# Altium footprint library PCB_General.PcbLib: 58 footprints (part 2 of 4)
Each footprint in its own frame and in the unit in brackets; x right, y up, seen from the top. Pads: shape width x height; smd on the part's side, far side on the other; paste and mask are expansions set on the pad; w line width, h text height; cw(c..) or ccw(c..) is an arc to the next point about the centre after c.
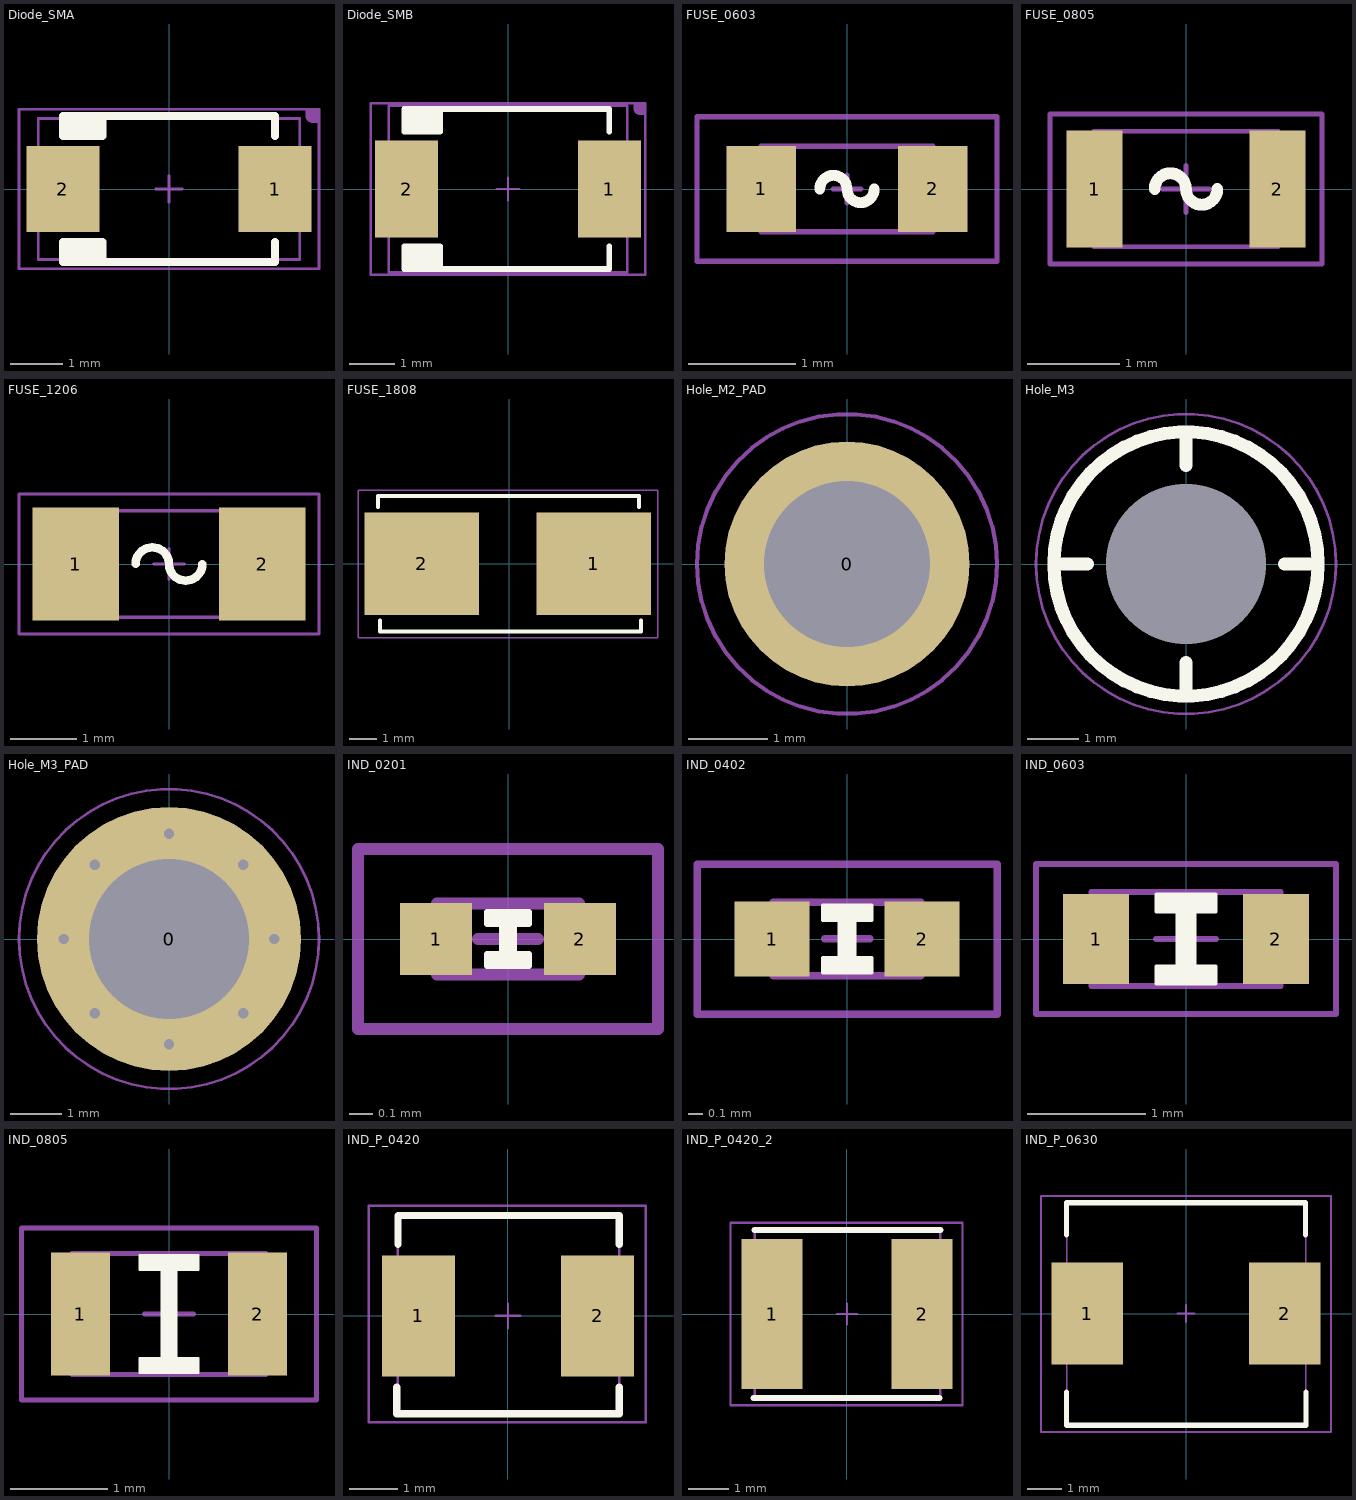
[diagram p1: the footprints below, top view; thin cyan lines are the x and y axes]

## Diode_SMA [mil]
pads (2):
  rect 55x65 smd: 1(79.98,0) 2(-80.02,0)
Top Overlay:
  region: -50.02,40 -50.02,55 -80.02,55 -80.02,40
  region: -50.02,-40 -50.02,-55 -80.02,-55 -80.02,-40
  lines w6: -50.02,-55 -50.02,-40 -80.02,-40 -80.02,-55 79.98,-55 79.98,-40 ; -50.02,55 -50.02,40 -80.02,40 -80.02,55 79.98,55 79.98,40
Top Assembly (Mech13):
  lines w2: -10.01,0.01 9.99,0.01 ; -0.01,-9.99 -0.01,10.01 ; -98.43,-53.14 98.42,-53.14 98.42,53.16 -98.43,53.16 -98.43,-53.14
Top Component:
  region: 112.98,60 112.98,50 107.98,50 106.99,50 105.15,50.76 103.74,52.17 102.98,54.01 102.98,55 102.98,60
  lines w2: -113.02,-60 -113.02,60 112.98,60 112.98,-60 -113.02,-60
  text ".Designator" at -70,-20 h80
3D body "User Library-DO-214AC_SMA.STEP": height 84.69, standoff -1.97, extent -98.43,-53.14 98.42,53.16

## Diode_SMB [mil]
pads (2):
  rect 55x85 smd: 1(88.58,0) 2(-88.58,0)
Top Overlay:
  region: -59.5,-50 -59.5,-70 -90.58,-70 -90.58,-50
  region: -59.5,50 -59.5,70 -90.58,70 -90.58,50
  lines w5: -59.5,-70 -59.5,-50 -90.58,-50 -90.58,-70 88.58,-70 88.58,-50 ; -59.5,70 -59.5,50 -90.58,50 -90.58,70 88.58,70 88.58,50
Top Assembly (Mech13):
  lines w2: -10,0 10,0 ; 0,-10 0,10 ; -104.33,-72.84 104.33,-72.84 104.33,72.84 -104.33,72.84 -104.33,-72.84
Top Component:
  region: 120,75 120,65 115,65 114.01,65 112.17,65.76 110.76,67.17 110,69.01 110,70 110,75
  lines w2: -120,-75 -120,75 120,75 120,-75 -120,-75
  text ".Designator" at -80,-20 h80
3D body "User Library-DO-214AA_SMB.STEP": height 86.65, standoff -1.97, extent -104.33,-72.84 104.33,72.84

## FUSE_0603 [mm]
height 0.35
pads (2):
  rect 0.65x0.8 smd: 1(-0.8,0) 2(0.8,0)
Top Overlay:
  lines w0.1: -0.254,0 cw(c-0.127,0) -0.127,0.127 cw(c-0.127,0) 0,0 ccw(c0.127,0) 0.127,-0.127 ccw(c0.127,0) 0.254,0
Top Assembly (Mech13):
  lines w0.051: -0.127,0 0.127,0 ; 0,-0.127 0,0.127 ; -0.8,-0.4 -0.8,0.4 0.8,0.4 0.8,-0.4 -0.8,-0.4
Top Component:
  lines w0.051: -1.4,-0.675 1.4,-0.675 1.4,0.675 -1.4,0.675 -1.4,-0.675
  text ".Designator" at -1.27,-0.381 h1.52
3D body "RESC1608X05L.step": height 0.45, standoff 0, extent -0.8,-0.4 0.8,0.4

## FUSE_0805 [mil]
pads (2):
  rect 24x50 smd: 1(-39,0) 2(39,0)
Top Overlay:
  lines w5: -13.39,0 cw(c-6.69,0) -6.69,6.69 cw(c-6.69,0) 0,0 ccw(c6.69,0) 6.69,-6.69 ccw(c6.69,0) 13.39,0
Top Assembly (Mech13):
  lines w2: -10,0 10,0 ; 0,-10 0,10 ; -39.37,-24.61 39.37,-24.61 39.37,24.61 -39.37,24.61 -39.37,-24.61
Top Component:
  lines w2: -58,-32 58,-32 58,32 -58,32 -58,-32
  text ".Designator" at -50,-20 h80
3D body "RESC2012X06L.step": height 23.62, standoff 0, extent -39.37,-24.6 39.37,24.61

## FUSE_1206 [mm]
pads (2):
  rect 1.3x1.7 smd: 1(-1.4,0) 2(1.4,0)
Top Overlay:
  lines w0.127: -0.5,0 cw(c-0.25,0) -0.25,0.25 cw(c-0.25,0) 0,0 ccw(c0.25,0) 0.25,-0.25 ccw(c0.25,0) 0.5,0
Top Assembly (Mech13):
  lines w0.051: -0.229,0 0.229,0 ; 0,-0.229 0,0.229 ; -1.6,-0.8 1.6,-0.8 1.6,0.8 -1.6,0.8 -1.6,-0.8
Top Component:
  lines w0.051: -2.25,-1.05 -2.25,1.05 2.25,1.05 2.25,-1.05 -2.25,-1.05
  text ".Designator" at -1.524,-0.508 h2.03
3D body "R_1206.STEP": height 1.01, standoff -0.01, extent -1.6,-0.8 1.6,0.8

## FUSE_1808 [mm] "1808/2410保险丝座"
height 3
pads (2):
  rect 4.24x3.81 smd: 1(3.125,0) 2(-3.25,0)
Top Overlay:
  lines w0.15: -4.877,2.108 -4.877,2.515 4.801,2.515 4.801,2.108 ; -4.801,-2.108 -4.801,-2.515 4.877,-2.515 4.877,-2.108
Top Component:
  lines w0.051: -5.613,-2.743 -5.613,2.718 5.512,2.718 5.512,-2.743 -5.613,-2.743
  text ".Designator" at -2.286,-0.508 h2.03
3D body "1808 Holder and Fuse.STEP": height 3.74, standoff 0.04, extent -4.9,-2.475 4.8,2.525

## Hole_M2_PAD [mm]
pads (1):
  round 3.1 hole 2.1: 0(0,0)
Top Component:
  circle w0.051: c0,0 r1.899

## Hole_M3 [mm]
pads (1):
  round 0 hole 3.1: 0(0,0)
Top Overlay:
  circle w0.254: c0,0 r2.553
  lines w0.254: -2.553,0 -1.905,0 ; 0,-2.553 0,-1.905 ; 0,1.905 0,2.553 ; 1.905,0 2.553,0
Top Component:
  circle w0.051: c0,0 r2.899

## Hole_M3_PAD [mm]
pads (1):
  round 5.1 hole 3.1: 0(0,0)
via 0,-2.032 diameter 0.4 hole 0.2
via 1.437,-1.437 diameter 0.4 hole 0.2
via -1.437,-1.437 diameter 0.4 hole 0.2
via -2.032,0 diameter 0.4 hole 0.2
via -1.437,1.437 diameter 0.4 hole 0.2
via 0,2.032 diameter 0.4 hole 0.2
via 1.437,1.437 diameter 0.4 hole 0.2
via 2.032,0 diameter 0.4 hole 0.2
Top Component:
  circle w0.051: c0,0 r2.899

## IND_0201 [mil]
height 15.75
pads (2):
  rect 12x12 smd: 1(-12,0) 2(12,0)
Top Overlay:
  region: -3.5,4.5 3.5,4.5 3.5,2.5 1,2.5 1,-2.5 3.5,-2.5 3.5,-4.5 -3.5,-4.5 -3.5,-2.5 -1,-2.5 -1,2.5 -3.5,2.5
  lines w1: -3.5,-4.5 3.5,-4.5 3.5,-2.5 1,-2.5 1,2.5 3.5,2.5 3.5,4.5 -3.5,4.5 -3.5,2.5 -1,2.5 -1,-2.5 -3.5,-2.5 -3.5,-4.5
Top Assembly (Mech13):
  lines w2: -5,0 5,0 ; 0,-5 0,5 ; -11.81,-5.91 -11.81,5.91 11.81,5.91 11.81,-5.91 -11.81,-5.91
Top Component:
  lines w2: -25,-15 -25,15 25,15 25,-15 -25,-15
  text ".Designator" at -20,-10 h30
3D body "INDC0603X03L.step": height 11.81, standoff 0, extent -11.81,-5.9 11.81,5.91

## IND_0402 [mil]
height 21.65
pads (2):
  rect 20x20 smd: 1(-20,0) 2(20,0)
Top Overlay:
  region: -6.5,9 6.5,9 6.5,5 2,5 2,-5 6.5,-5 6.5,-9 -6.5,-9 -6.5,-5 -2,-5 -2,5 -6.5,5
  lines w1: -6.5,-9 -6.5,-5 -2,-5 -2,5 -6.5,5 -6.5,9 6.5,9 6.5,5 2,5 2,-5 6.5,-5 6.5,-9 -6.5,-9
Top Assembly (Mech13):
  lines w2: -6,0 6,0 ; 0,-6 0,6 ; -19.69,-9.84 -19.69,9.84 19.68,9.84 19.68,-9.84 -19.69,-9.84
Top Component:
  lines w2: -40,-20 -40,20 40,20 40,-20 -40,-20
  text ".Designator" at -35,-10 h40
3D body "INDC1005X05L.step": height 19.68, standoff 0, extent -19.68,-9.84 19.69,9.85

## IND_0603 [mil]
height 31.5
pads (2):
  rect 22x30 smd: 1(-30,0) 2(30,0)
Top Overlay:
  region: -10,15 10,15 10,9 3,9 3,-9 10,-9 10,-15 -10,-15 -10,-9 -3,-9 -3,9 -10,9
  lines w1: -10,-15 10,-15 10,-9 3,-9 3,9 10,9 10,15 -10,15 -10,9 -3,9 -3,-9 -10,-9 -10,-15
Top Assembly (Mech13):
  lines w2: -10,0 10,0 ; 0,-10 0,10 ; -31.5,-15.75 31.5,-15.75 31.5,15.75 -31.5,15.75 -31.5,-15.75
Top Component:
  lines w2: -50,-25 50,-25 50,25 -50,25 -50,-25
  text ".Designator" at -45,-15 h60
3D body "INDC1608X08L.step": height 31.5, standoff 0, extent -31.49,-15.75 31.5,15.75

## IND_0805 [mil]
height 35.43
pads (2):
  rect 24x50 smd: 1(-36,0) 2(36,0)
Top Overlay:
  region: -12,18 -12,24 12,24 12,18 3,18 3,-18 12,-18 12,-24 -12,-24 -12,-18 -3,-18 -3,18
  lines w1: -12,-24 12,-24 12,-18 3,-18 3,18 12,18 12,24 -12,24 -12,18 -3,18 -3,-18 -12,-18 -12,-24
Top Assembly (Mech13):
  lines w2: -10,0 10,0 ; 0,-10 0,10 ; -39.37,-24.61 -39.37,24.61 39.37,24.61 39.37,-24.61 -39.37,-24.61
Top Component:
  lines w2: -60,-35 60,-35 60,35 -60,35 -60,-35
  text ".Designator" at -50,-20 h80
3D body "INDC2012X10L.step": height 39.37, standoff 0, extent -39.37,-24.6 39.37,24.61

## IND_P_0420 [mm]
pads (2):
  rect 1.5x2.5 smd: 1(-1.85,0) 2(1.85,0)
Top Overlay:
  lines w0.15: -2.3,-1.475 -2.3,-2.025 -1.775,-2.025 1.75,-2.025 2.3,-2.025 2.3,-1.475 ; -2.275,1.475 -2.275,2.075 -1.675,2.075 1.675,2.075 2.3,2.075 ; 2.3,1.475 2.3,2.075 ; 2.3,2.075 2.3,2.075
Top Assembly (Mech13):
  lines w0.051: -0.254,0 0.254,0 ; 0,-0.254 0,0.254 ; -2.275,-2.025 -2.275,2.075 2.3,2.075 2.3,-2.025 -2.275,-2.025
Top Component:
  lines w0.051: -2.875,-2.2 -2.875,2.275 2.85,2.275 2.85,-2.2 -2.875,-2.2
  text ".Designator" at -1.778,-0.508 h2.03
3D body: height 2, standoff 0, extent -2.275,-2.025 2.3,2.075

## IND_P_0420_2 [mm]
pads (2):
  rect 1.5x3.7 smd: 1(-1.85,0) 2(1.85,0)
Top Overlay:
  lines w0.15: -2.3,-2.075 2.275,-2.075 ; -2.275,2.075 2.3,2.075 ; 2.3,2.075 2.3,2.075
Top Assembly (Mech13):
  lines w0.051: -0.254,0 0.254,0 ; 0,-0.254 0,0.254 ; -2.275,-2.025 -2.275,2.075 2.3,2.075 2.3,-2.025 -2.275,-2.025
Top Component:
  lines w0.051: -2.875,-2.25 -2.875,2.25 2.85,2.25 2.85,-2.25 -2.875,-2.25
  text ".Designator" at -1.905,-0.508 h2.03
3D body: height 2, standoff 0, extent -2.275,-2.025 2.3,2.075

## IND_P_0630 [mm] "7*6.6*2.8MM(长*宽*高)"
pads (2):
  rect 2.1x3 smd: 1(-2.9,0) 2(2.9,0)
Top Overlay:
  lines w0.15: -3.5,-2.3 -3.5,-3.275 3.525,-3.275 3.525,-2.3 ; -3.5,2.3 -3.5,3.25 3.5,3.25 3.5,2.3
Top Assembly (Mech13):
  lines w0.051: -0.254,0 0.254,0 ; 0,-0.254 0,0.254 ; -3.5,-3.25 -3.5,3.25 3.5,3.25 3.512,3.238 3.512,-3.25 -3.5,-3.25
Top Component:
  lines w0.051: -4.25,-3.475 -4.25,3.45 4.25,3.45 4.25,-3.475 -4.25,-3.475
  text ".Designator" at -2.032,-0.508 h2.03
3D body: height 2.8, standoff 0, extent -3.5,-3.25 3.525,3.25